# Altium footprint library QFP_208_Xilinx.PcbLib: 1 footprints
Each footprint in its own frame and in the unit in brackets; x right, y up, seen from the top. Pads: shape width x height; smd on the part's side, far side on the other; paste and mask are expansions set on the pad; w line width, h text height; cw(c..) or ccw(c..) is an arc to the next point about the centre after c.
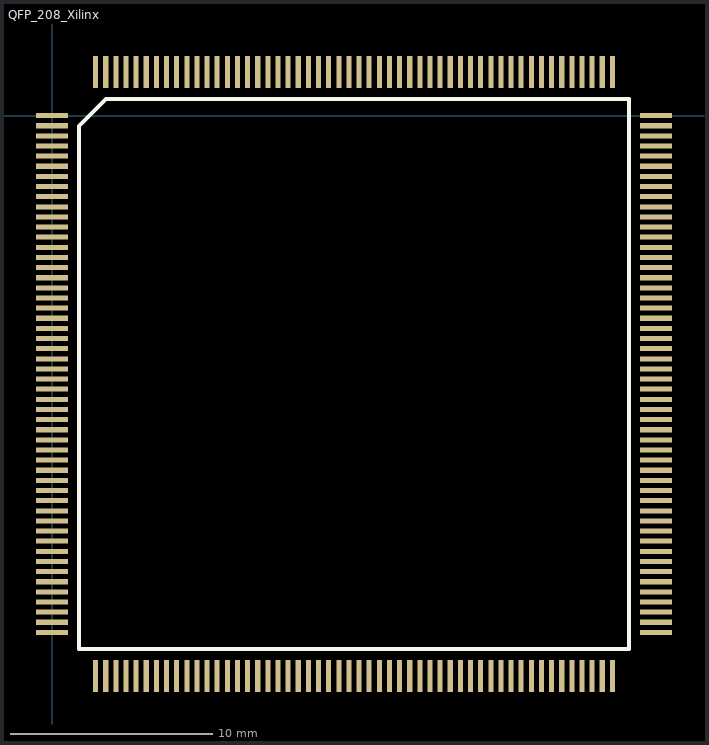
[diagram p0: the footprint, top view; thin cyan lines are the x and y axes]

## QFP_208_Xilinx [mm]
pads (208):
  rect 1.6x0.25 smd: 1(0,0) 2(0,-0.5) 3(0,-1) 4(0,-1.5) 5(0,-2) 6(0,-2.5) 7(0,-3) 8(0,-3.5) 9(0,-4) 10(0,-4.5) 11(0,-5) 12(0,-5.5) 13(0,-6) 14(0,-6.5) 15(0,-7) 16(0,-7.5) 17(0,-8) 18(0,-8.5) 19(0,-9) 20(0,-9.5) 21(0,-10) 22(0,-10.5) 23(0,-11) 24(0,-11.5) 25(0,-12) 26(0,-12.5) 27(0,-13) 28(0,-13.5) 29(0,-14) 30(0,-14.5) 31(0,-15) 32(0,-15.5) 33(0,-16) 34(0,-16.5) 35(0,-17) 36(0,-17.5) 37(0,-18) 38(0,-18.5) 39(0,-19) 40(0,-19.5) 41(0,-20) 42(0,-20.5) 43(0,-21) 44(0,-21.5) 45(0,-22) 46(0,-22.5) 47(0,-23) 48(0,-23.5) 49(0,-24) 50(0,-24.5) 51(0,-25) 52(0,-25.5) 105(29.8,-25.5) 106(29.8,-25) 107(29.8,-24.5) 108(29.8,-24) 109(29.8,-23.5) 110(29.8,-23) 111(29.8,-22.5) 112(29.8,-22) 113(29.8,-21.5) 114(29.8,-21) 115(29.8,-20.5) 116(29.8,-20) 117(29.8,-19.5) 118(29.8,-19) 119(29.8,-18.5) 120(29.8,-18) 121(29.8,-17.5) 122(29.8,-17) 123(29.8,-16.5) 124(29.8,-16) 125(29.8,-15.5) 126(29.8,-15) 127(29.8,-14.5) 128(29.8,-14) 129(29.8,-13.5) 130(29.8,-13) 131(29.8,-12.5) 132(29.8,-12) 133(29.8,-11.5) 134(29.8,-11) 135(29.8,-10.5) 136(29.8,-10) 137(29.8,-9.5) 138(29.8,-9) 139(29.8,-8.5) 140(29.8,-8) 141(29.8,-7.5) 142(29.8,-7) 143(29.8,-6.5) 144(29.8,-6) 145(29.8,-5.5) 146(29.8,-5) 147(29.8,-4.5) 148(29.8,-4) 149(29.8,-3.5) 150(29.8,-3) 151(29.8,-2.5) 152(29.8,-2) 153(29.8,-1.5) 154(29.8,-1) 155(29.8,-0.5) 156(29.8,0)
  rect 0.25x1.6 smd: 53(2.15,-27.65) 54(2.65,-27.65) 55(3.15,-27.65) 56(3.65,-27.65) 57(4.15,-27.65) 58(4.65,-27.65) 59(5.15,-27.65) 60(5.65,-27.65) 61(6.15,-27.65) 62(6.65,-27.65) 63(7.15,-27.65) 64(7.65,-27.65) 65(8.15,-27.65) 66(8.65,-27.65) 67(9.15,-27.65) 68(9.65,-27.65) 69(10.15,-27.65) 70(10.65,-27.65) 71(11.15,-27.65) 72(11.65,-27.65) 73(12.15,-27.65) 74(12.65,-27.65) 75(13.15,-27.65) 76(13.65,-27.65) 77(14.15,-27.65) 78(14.65,-27.65) 79(15.15,-27.65) 80(15.65,-27.65) 81(16.15,-27.65) 82(16.65,-27.65) 83(17.15,-27.65) 84(17.65,-27.65) 85(18.15,-27.65) 86(18.65,-27.65) 87(19.15,-27.65) 88(19.65,-27.65) 89(20.15,-27.65) 90(20.65,-27.65) 91(21.15,-27.65) 92(21.65,-27.65) 93(22.15,-27.65) 94(22.65,-27.65) 95(23.15,-27.65) 96(23.65,-27.65) 97(24.15,-27.65) 98(24.65,-27.65) 99(25.15,-27.65) 100(25.65,-27.65) 101(26.15,-27.65) 102(26.65,-27.65) 103(27.15,-27.65) 104(27.65,-27.65) 157(27.65,2.15) 158(27.15,2.15) 159(26.65,2.15) 160(26.15,2.15) 161(25.65,2.15) 162(25.15,2.15) 163(24.65,2.15) 164(24.15,2.15) 165(23.65,2.15) 166(23.15,2.15) 167(22.65,2.15) 168(22.15,2.15) 169(21.65,2.15) 170(21.15,2.15) 171(20.65,2.15) 172(20.15,2.15) 173(19.65,2.15) 174(19.15,2.15) 175(18.65,2.15) 176(18.15,2.15) 177(17.65,2.15) 178(17.15,2.15) 179(16.65,2.15) 180(16.15,2.15) 181(15.65,2.15) 182(15.15,2.15) 183(14.65,2.15) 184(14.15,2.15) 185(13.65,2.15) 186(13.15,2.15) 187(12.65,2.15) 188(12.15,2.15) 189(11.65,2.15) 190(11.15,2.15) 191(10.65,2.15) 192(10.15,2.15) 193(9.65,2.15) 194(9.15,2.15) 195(8.65,2.15) 196(8.15,2.15) 197(7.65,2.15) 198(7.15,2.15) 199(6.65,2.15) 200(6.15,2.15) 201(5.65,2.15) 202(5.15,2.15) 203(4.65,2.15) 204(4.15,2.15) 205(3.65,2.15) 206(3.15,2.15) 207(2.65,2.15) 208(2.15,2.15)
Top Overlay:
  lines w0.2: 1.335,-26.315 28.465,-26.315 28.465,0.815 2.67,0.815 1.335,-0.52 1.335,-26.315